# Altium schematic symbol library STM32L471ZGJ6.SchLib: 1 symbol
Pins are listed as number, name and electrical type; pins without a type are passive.

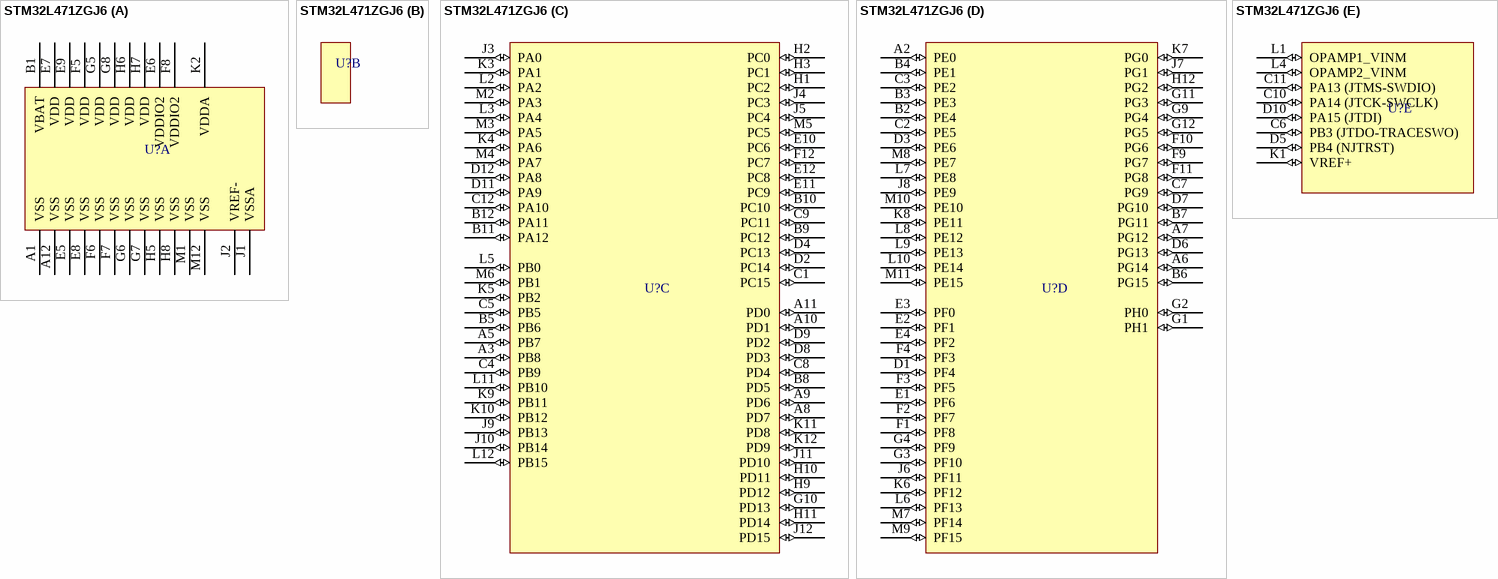
[diagram p0: symbol STM32L471ZGJ6]

## STM32L471ZGJ6
designator U?  (value not drawn)
Ultra-low-power with FPU Arm Cortex-M4 MCU 80 MHz with 1 Mbyte of Flash memory, DFSDM
part A pins: A1 VSS (power), A12 VSS (power), B1 VBAT (power), E5 VSS (power), E6 VDDIO2 (power), E7 VDD (power), E8 VSS (power), E9 VDD (power), F5 VDD (power), F6 VSS (power), F7 VSS (power), F8 VDDIO2 (power), G5 VDD (power), G6 VSS (power), G7 VSS (power), G8 VDD (power), H5 VSS (power), H6 VDD (power), H7 VDD (power), H8 VSS (power), J1 VSSA (power), J2 VREF- (power), K2 VDDA (power), M1 VSS (power), M12 VSS (power)
part C pins: A3 PB8 (io), A5 PB7 (io), A8 PD7 (io), A9 PD6 (io), A10 PD1 (io), A11 PD0 (io), B5 PB6 (io), B8 PD5 (io), B9 PC12 (io), B10 PC10 (io), B11 PA12 (io), B12 PA11 (io), C1 PC15 (io), C4 PB9 (io), C5 PB5 (io), C8 PD4 (io), C9 PC11 (io), C12 PA10 (io), D2 PC14 (io), D4 PC13 (io), D8 PD3 (io), D9 PD2 (io), D11 PA9 (io), D12 PA8 (io), E10 PC6 (io), E11 PC9 (io), E12 PC8 (io), F12 PC7 (io), G10 PD13 (io), H1 PC2 (io), H2 PC0 (io), H3 PC1 (io), H9 PD12 (io), H10 PD11 (io), H11 PD14 (io), J3 PA0 (io), J4 PC3 (io), J5 PC4 (io), J9 PB13 (io), J10 PB14 (io), J11 PD10 (io), J12 PD15 (io), K3 PA1 (io), K4 PA6 (io), K5 PB2 (io), K9 PB11 (io), K10 PB12 (io), K11 PD8 (io), K12 PD9 (io), L2 PA2 (io), L3 PA4 (io), L5 PB0 (io), L11 PB10 (io), L12 PB15 (io), M2 PA3 (io), M3 PA5 (io), M4 PA7 (io), M5 PC5 (io), M6 PB1 (io)
part D pins: A2 PE0 (io), A6 PG14 (io), A7 PG12 (io), B2 PE4 (io), B3 PE3 (io), B4 PE1 (io), B6 PG15 (io), B7 PG11 (io), C2 PE5 (io), C3 PE2 (io), C7 PG9 (io), D1 PF4 (io), D3 PE6 (io), D6 PG13 (io), D7 PG10 (io), E1 PF6 (io), E2 PF1 (io), E3 PF0 (io), E4 PF2 (io), F1 PF8 (io), F2 PF7 (io), F3 PF5 (io), F4 PF3 (io), F9 PG7 (io), F10 PG6 (io), F11 PG8 (io), G1 PH1 (io), G2 PH0 (io), G3 PF10 (io), G4 PF9 (io), G9 PG4 (io), G11 PG3 (io), G12 PG5 (io), H12 PG2 (io), J6 PF11 (io), J7 PG1 (io), J8 PE9 (io), K6 PF12 (io), K7 PG0 (io), K8 PE11 (io), L6 PF13 (io), L7 PE8 (io), L8 PE12 (io), L9 PE13 (io), L10 PE14 (io), M7 PF14 (io), M8 PE7 (io), M9 PF15 (io), M10 PE10 (io), M11 PE15 (io)
part E pins: C6 PB3 (JTDO-TRACESWO) (io), C10 PA14 (JTCK-SWCLK) (io), C11 PA13 (JTMS-SWDIO) (io), D5 PB4 (NJTRST) (io), D10 PA15 (JTDI) (io), K1 VREF+ (io), L1 OPAMP1_VINM (io), L4 OPAMP2_VINM (io)